# Altium schematic symbol library Diode_Diodes_MMSZ5233B_eec.SchLib: 1 symbol
Pins are listed as number, name and electrical type; pins without a type are passive.

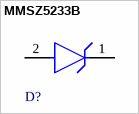
[diagram p0: symbol MMSZ5233B]

## MMSZ5233B
designator D?  (value not drawn)
pins: 1 C, 2 A